# EAGLE library part 74VH14_INVERTER (library ecad)
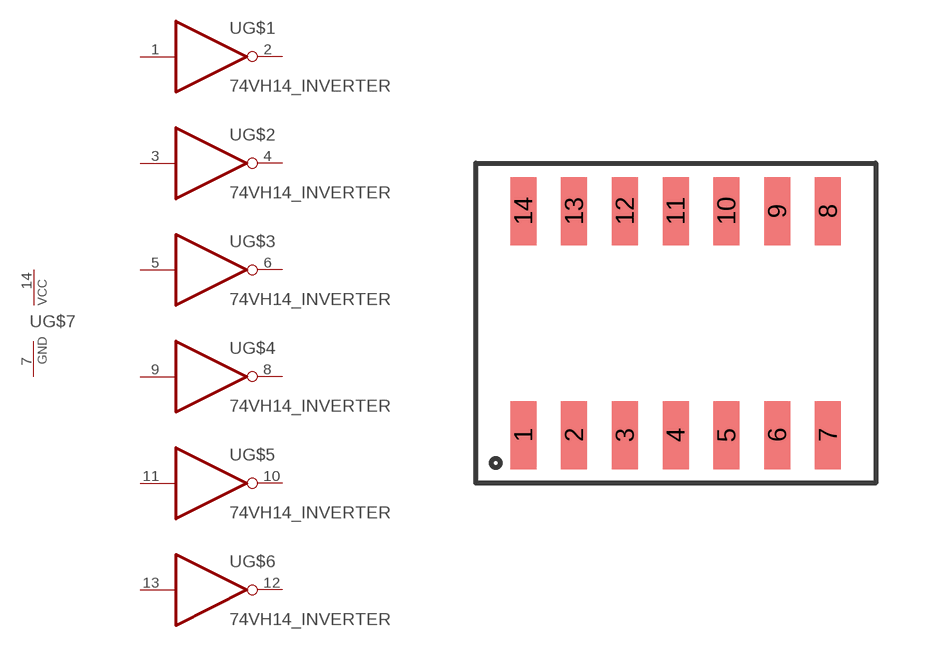
[diagram p0: symbol with the pads of HEX_SCHMITT_INVERTER; footprint HEX_SCHMITT_INVERTER]

Designator prefix U; gates G$1=14_PIN_INVERTER G$2=14_PIN_INVERTER G$3=14_PIN_INVERTER G$4=14_PIN_INVERTER G$5=14_PIN_INVERTER G$6=14_PIN_INVERTER G$7=PWRN

## 74VH14_INVERTER  [HEX_SCHMITT_INVERTER]
1  G$1:I  in
2  G$1:O  out
3  G$2:I  in
4  G$2:O  out
5  G$3:I  in
6  G$3:O  out
7  G$7:GND  pwr
8  G$4:O  out
9  G$4:I  in
10  G$5:O  out
11  G$5:I  in
12  G$6:O  out
13  G$6:I  in
14  G$7:VCC  pwr

## Footprint HEX_SCHMITT_INVERTER (pad centres in mm)
smd 0.65 x 1.7: 1 -3.81,-2.8; 2 -2.54,-2.8; 3 -1.27,-2.8; 4 0,-2.8; 5 1.27,-2.8; 6 2.54,-2.8; 7 3.81,-2.8; 8 3.81,2.8; 9 2.54,2.8; 10 1.27,2.8; 11 0,2.8; 12 -1.27,2.8; 13 -2.54,2.8; 14 -3.81,2.8